# Altium footprint library PCB - BATTERY HOLDER - KEYSTONE 54.PCBLIB: 1 footprints
Each footprint in its own frame and in the unit in brackets; x right, y up, seen from the top. Pads: shape width x height; smd on the part's side, far side on the other; paste and mask are expansions set on the pad; w line width, h text height; cw(c..) or ccw(c..) is an arc to the next point about the centre after c.
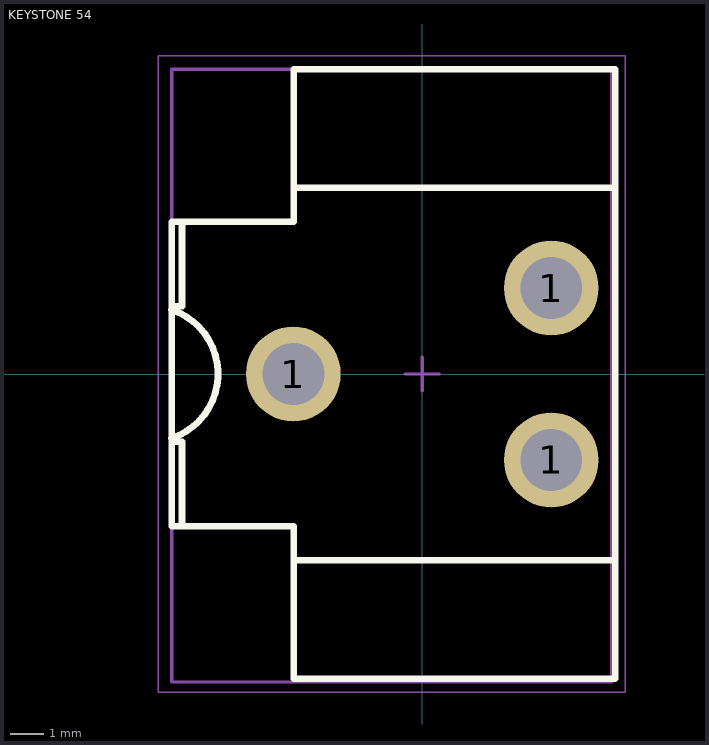
[diagram p0: the footprint, top view; thin cyan lines are the x and y axes]

## KEYSTONE 54 [mm] "16-19mm TH Battery Clip"
height 16.59
pads (3):
  round 2.8 hole 1.83 paste-2539.97 mask+0.102: 1(-3.81,0) 1(3.81,-2.54) 1(3.81,2.54)
Top Overlay:
  lines w0.2: -7.41,-1.9 ccw(c-8.035,0) -7.41,1.9 ; -7.4,-2 -7.1,-2 -7.1,-4.5 ; -7.4,2 -7.1,2 -7.1,4.5 ; -3.8,-5.5 5.7,-5.5 ; -3.8,5.5 5.7,5.5 ; 5.7,-5.5 5.7,3 5.7,5.5 ; 5.7,-5.5 5.7,-9 -3.8,-9 -3.8,-6.5 -3.8,-4.5 -7.4,-4.5 -7.4,4.5 -3.8,4.5 -3.8,6.5 -3.8,9 5.7,9 5.7,5.5
Mechanical 13:
  lines w0.1: -7.4,-9.1 5.6,-9.1 5.6,9 -7.4,9 -7.4,-9.1
Mechanical 15:
  lines w0.05: -7.8,-9.4 6,-9.4 6,9.4 -7.8,9.4 -7.8,-9.4
  lines w0.1: -0.5,0 0.5,0 ; 0,-0.5 0,0.5
3D body "Keystone - 54.step": height 18.3, standoff -3.05, extent -7.403,-9.046 5.601,9.046